# EAGLE library part EZG-?-314 (library con-lemo)
LEMO Connector Source: http://www.lemo.com/pdfs/catalog/ROW/German/unipole_multipole.pdf
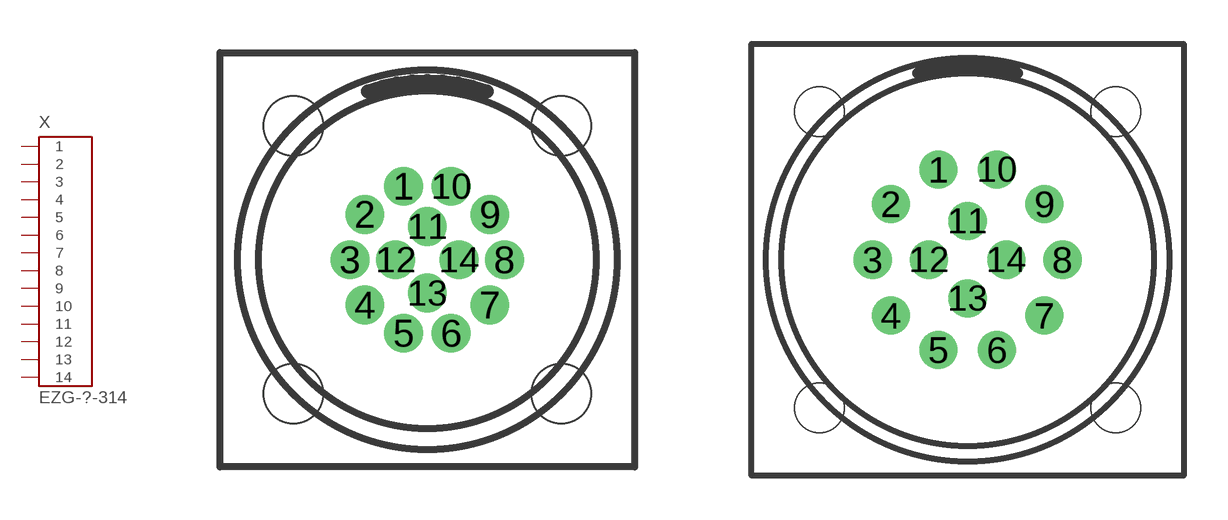
[diagram p9: symbol with the pads of EZG-1B-1K-314; footprints EZG-1B-1K-314, EZG-2B-2K-314]

Designator prefix X

## EZG-1B-314 (OC_FARNELL: unknown; OC_NEWARK: unknown)  [EZG-1B-1K-314]
1  1  pas
2  2  pas
3  3  pas
4  4  pas
5  5  pas
6  6  pas
7  7  pas
8  8  pas
9  9  pas
10  10  pas
11  11  pas
12  12  pas
13  13  pas
14  14  pas

## EZG-1K-314 (OC_FARNELL: unknown; OC_NEWARK: unknown)  [EZG-1B-1K-314]
Pads as for EZG-1B-1K-314

## EZG-2B-314 (OC_FARNELL: unknown; OC_NEWARK: unknown)  [EZG-2B-2K-314]
Pads as for EZG-1B-1K-314

## EZG-2K-314 (OC_FARNELL: unknown; OC_NEWARK: unknown)  [EZG-2B-2K-314]
Pads as for EZG-1B-1K-314

## Footprint EZG-1B-1K-314 (pad centres in mm)
LEMO Connector Source: http://www.lemo.com/pdfs/catalog/ROW/German/unipole_multipole.pdf
drill 0.6 pad 1: 1 -0.68,2.092; 2 -1.78,1.293; 3 -2.2,0; 4 -1.78,-1.293; 5 -0.68,-2.092; 6 0.68,-2.092; 7 1.78,-1.293; 8 2.2,0; 9 1.78,1.293; 10 0.68,2.092; 11 0,0.95; 12 -0.9,0; 13 0,-0.95; 14 0.9,0
hole 1.7 at -3.81,3.81
hole 1.7 at 3.81,3.81
hole 1.7 at 3.81,-3.81
hole 1.7 at -3.81,-3.81

## Footprint EZG-2B-2K-314 (pad centres in mm)
LEMO Connector Source: http://www.lemo.com/pdfs/catalog/ROW/German/unipole_multipole.pdf
drill 0.8 pad 1.3: 1 -1.004,3.091; 2 -2.629,1.91; 3 -3.25,0; 4 -2.629,-1.91; 5 -1.004,-3.091; 6 1.004,-3.091; 7 2.629,-1.91; 8 3.25,0; 9 2.629,1.91; 10 1.004,3.091; 11 0,1.325; 12 -1.325,0; 13 0,-1.325; 14 1.325,0
hole 1.7 at -5.08,5.08
hole 1.7 at 5.08,5.08
hole 1.7 at 5.08,-5.08
hole 1.7 at -5.08,-5.08